# EAGLE library part TBLOCK_5 (library Airbeam)
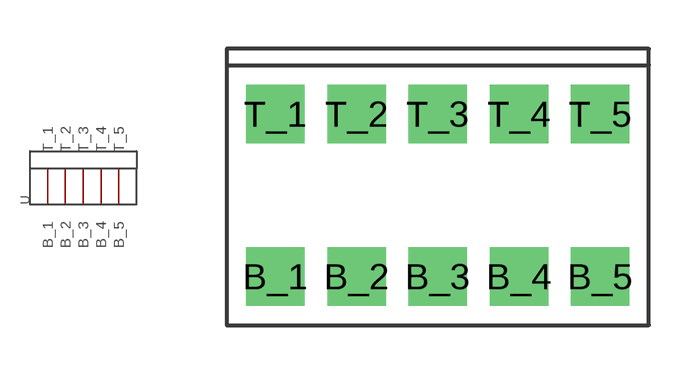
[diagram p7: symbol with the pads of TBLOCK_5; footprint TBLOCK_5]

Designator prefix -

## TBLOCK_5  [TBLOCK_5]
B_1  B_1
B_2  B_2
B_3  B_3
B_4  B_4
B_5  B_5
T_1  T_1
T_2  T_2
T_3  T_3
T_4  T_4
T_5  T_5

## Footprint TBLOCK_5 (pad centres in mm)
drill 1.2 square: B_1 -5,-2.5; B_2 -2.5,-2.5; B_3 0,-2.5; B_4 2.5,-2.5; B_5 5,-2.5; T_1 -5,2.5; T_2 -2.5,2.5; T_3 0,2.5; T_4 2.5,2.5; T_5 5,2.5